# Altium footprint library PowerDevices.PcbLib: 1 footprints
Each footprint in its own frame and in the unit in brackets; x right, y up, seen from the top. Pads: shape width x height; smd on the part's side, far side on the other; paste and mask are expansions set on the pad; w line width, h text height; cw(c..) or ccw(c..) is an arc to the next point about the centre after c.
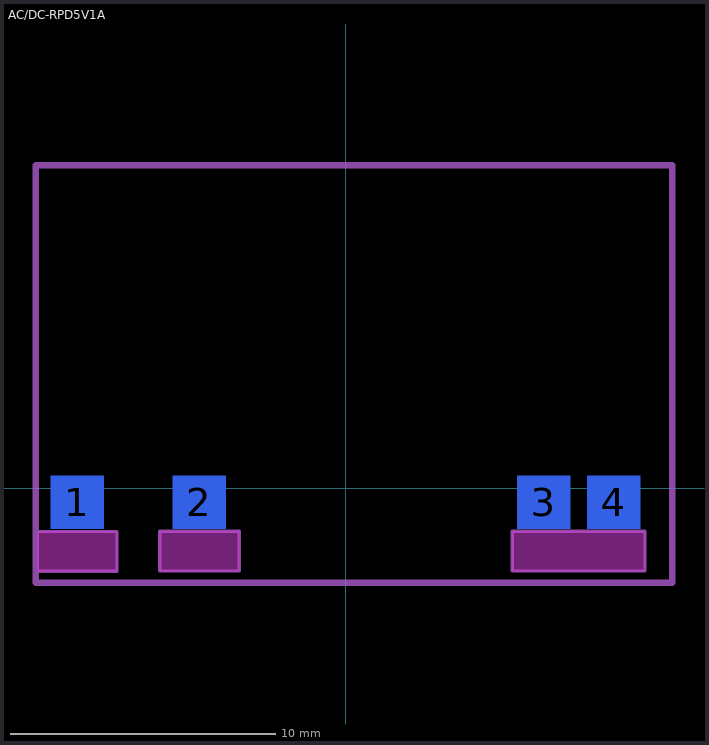
[diagram p0: the footprint, top view; thin cyan lines are the x and y axes]

## AC/DC-RPD5V1A [mm] "Power"
pads (4):
  rect 2x2 smd far side: 1(-10.117,-0.54) 2(-5.507,-0.54) 3(7.468,-0.54) 4(10.118,-0.54)
Keep-Out Layer:
  board cut-out: 6.293,-3.13 11.293,-3.13 11.293,-1.63 6.293,-1.63
  board cut-out: -7.007,-3.13 -7.007,-1.63 -4.007,-1.63 -4.007,-3.13
  board cut-out: -11.617,-3.14 -8.617,-3.14 -8.617,-1.64 -11.617,-1.64
Mechanical 1:
  lines w0.127: -11.617,-3.14 -11.617,-1.64 -8.617,-1.64 -8.617,-3.14 -11.617,-3.14 ; -7.007,-3.13 -7.007,-1.63 -4.007,-1.63 -4.007,-3.13 -7.007,-3.13 ; 6.293,-3.13 6.293,-1.63 11.293,-1.63 11.293,-3.13 6.293,-3.13
Mechanical 15:
  lines w0.254: -11.68,-3.57 -11.68,12.17 12.32,12.17 12.32,-3.57 -11.68,-3.57
  text "AC/DC" at -3.113,3.114 h1.52
  text "-" at 9.457,2.272 h1.52
  text "+" at 6.957,2.25 h1.52
3D body "RPD-AC-DC.STEP": height 15.26, standoff -2.74, extent -11.41,-3.226 12.09,11.806